# EAGLE library part LTC6994-X (library linear-technology-jqi)
LTC6994, programmable delay line/debouncer.
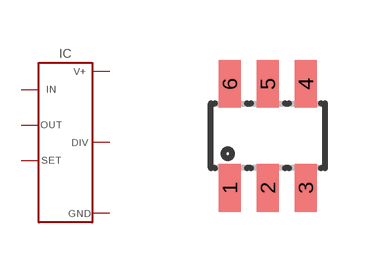
[diagram p4: symbol with the pads of SOT23-6L; footprint SOT23-6L]

Designator prefix IC

## LTC6994-X  [SOT23-6L]
1  IN  in
2  GND  in
3  SET  in
4  DIV  in
5  V+  in
6  OUT  out

## Footprint SOT23-6L (pad centres in mm)
Small Outline Transistor
smd 0.55 x 1.2: 1 -0.95,-1.3; 2 0,-1.3; 3 0.95,-1.3; 4 0.95,1.3; 5 0,1.3; 6 -0.95,1.3